# Altium schematic symbol library on-semi-power.SchLib: 3 symbols
Pins are listed as number, name and electrical type; pins without a type are passive.

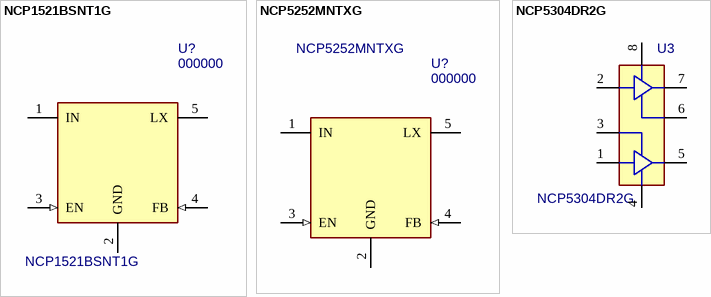
[diagram p0: symbols NCP1521BSNT1G to NCP5304DR2G]

## NCP1521BSNT1G
designator U?, comment 000000  value NCP1521BSNT1G
1.5 MHz, 600 mA Step-Down  DC-DC Converter; MF: ON Semiconductor; PN: 000000; Package: SOT-23-5; ExtraInfo: *
footprint TSOP-5 (SOT23, 5-Leads, Body 3.0x3.0mm (max), Pitch 0.95mm, IPC High Density)
pins: 1 IN (power), 2 GND (power), 3 EN (in), 4 FB (in), 5 LX (oc)

## NCP5252MNTXG
designator U?, comment 000000  value NCP5252MNTXG
2.0 A, 1.0 MHz Integrated  Synchronous Buck  Regulator with Light Load  Efficiency; MF: ON Semiconductor; PN: 000000; Package: SOT-23-5; ExtraInfo: *
footprint TSOP-5 (SOT23, 5-Leads, Body 3.0x3.0mm (max), Pitch 0.95mm, IPC High Density)
pins: 1 IN (power), 2 GND (power), 3 EN (in), 4 FB (in), 5 LX (oc)

## NCP5304DR2G
designator U3, comment value NCP5304DR2G  (hidden comment: 000000)
Hi Low Gate Driver 600V 250mA/500mA; MF: ON-Semiconductor; PN: 000000; Package: 8-SOIC; ExtraInfo: *
footprint 8-SOIC (Plastic Small Outline 8)
pins: 1 IN_LO, 2 IN_HI, 3 VCC, 4 GND (power), 5 DRV_LO, 6 BRIDGE, 7 DRV_HI, 8 VBOOT (power)